# Altium footprint library DE-260924.PcbLib: 126 footprints (part 3 of 8)
Each footprint in its own frame and in the unit in brackets; x right, y up, seen from the top. Pads: shape width x height; smd on the part's side, far side on the other; paste and mask are expansions set on the pad; w line width, h text height; cw(c..) or ccw(c..) is an arc to the next point about the centre after c.
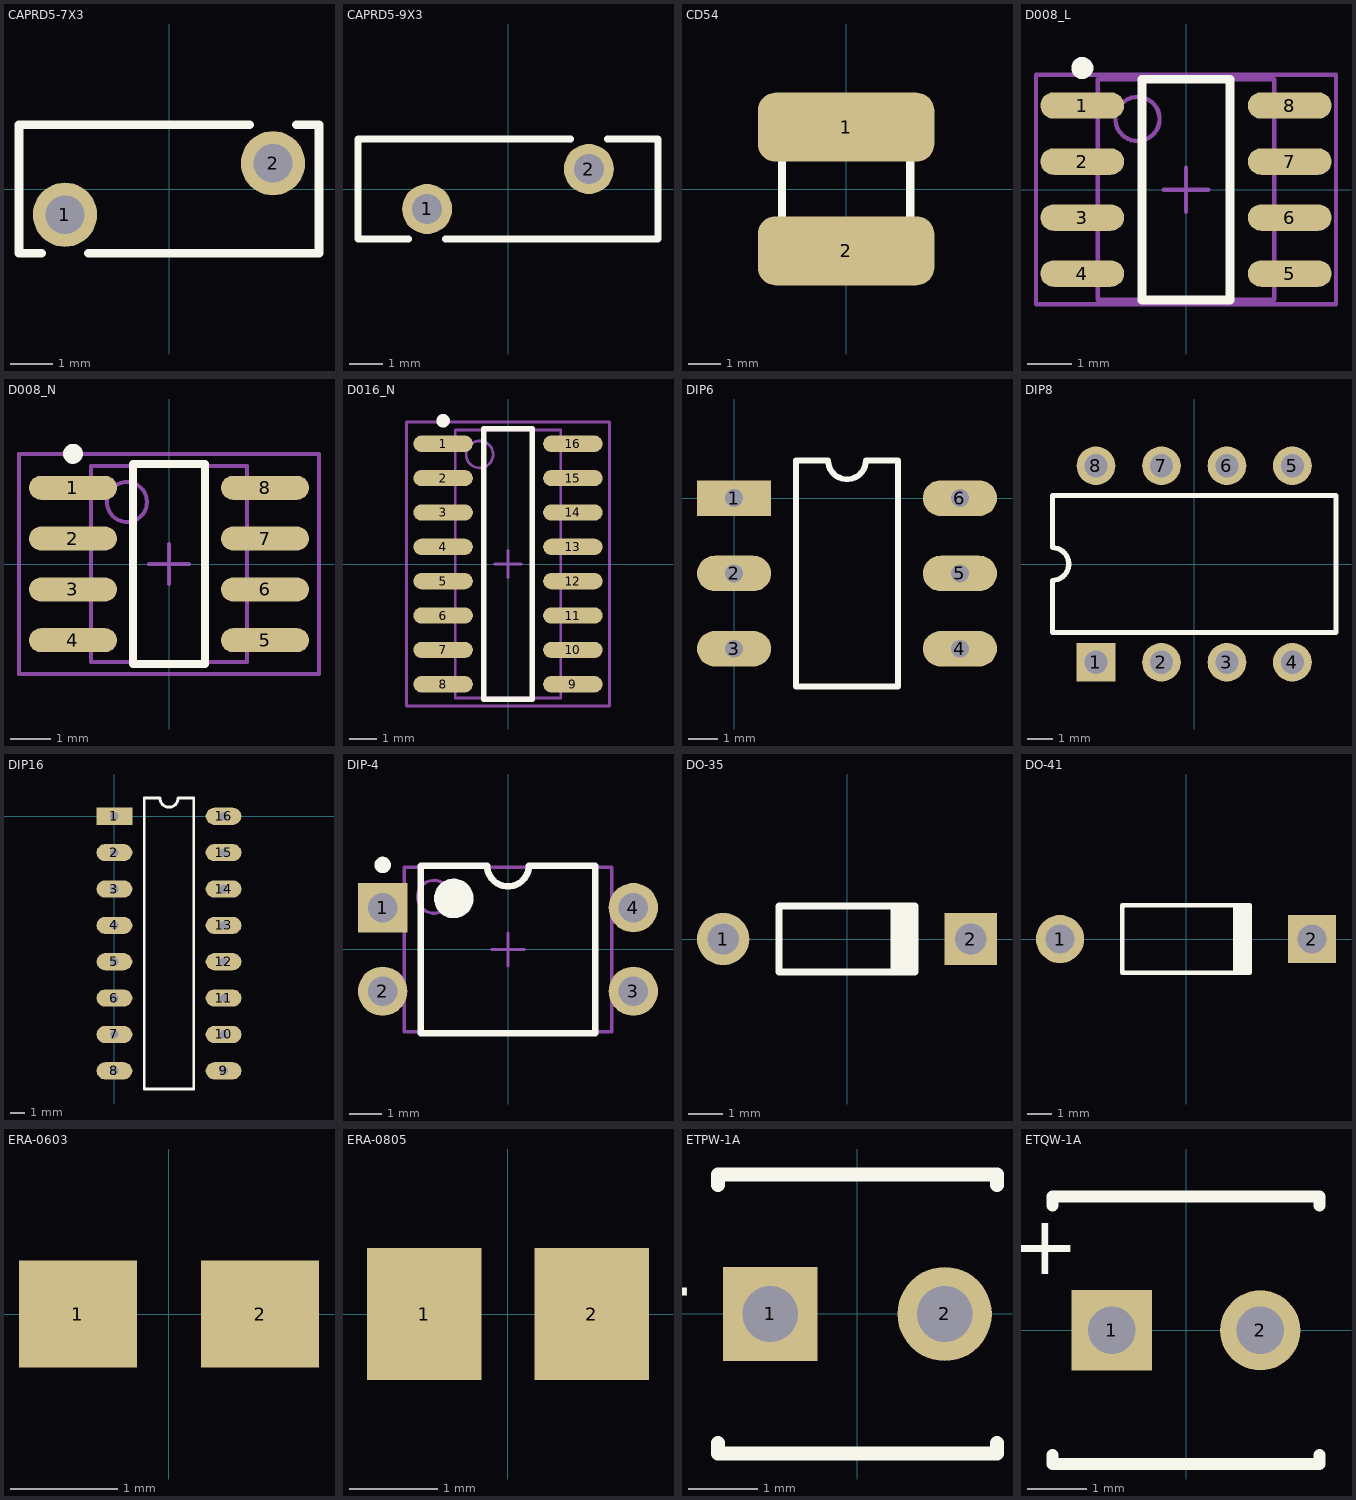
[diagram p2: the footprints below, top view; thin cyan lines are the x and y axes]

## CAPRD5-7X3 [mm] "Capacitor, Ceramic, Thru-Hole, Disc; Body 7 x 3 mm (LxW max) Pin Spacing 5 mm (typ)"
height 10
pads (2):
  round 1.5 hole 0.9: 1(-2.427,-0.6) 2(2.427,0.6)
Top Overlay:
  lines w0.2: -2.974,-1.5 -3.5,-1.5 -3.5,1.5 1.88,1.5 ; -1.88,-1.5 3.5,-1.5 3.5,1.5 2.974,1.5

## CAPRD5-9X3 [mm] "Capacitor, Ceramic, Thru-Hole, Disc; Body 9 x 3 mm (LxW max) Pin Spacing 5 mm (typ)"
height 12
pads (2):
  round 1.5 hole 0.9: 1(-2.427,-0.6) 2(2.427,0.6)
Top Overlay:
  lines w0.2: -2.974,-1.5 -4.5,-1.5 -4.5,1.5 1.88,1.5 ; -1.88,-1.5 4.5,-1.5 4.5,1.5 2.974,1.5

## CD54 [mm] "SMD Inductor 2,5A"
height 4.5
pads (2):
  rrect50% 5.5x2.15 smd: 1(0,1.925) 2(0,-1.925)
Top Overlay:
  lines w0.254: -2,-1.461 -2,1.547 ; -1.989,-1.461 ccw(c0.017,0.769) 1.981,-1.499 ; -1.981,1.547 cw(c0.043,-0.668) 1.99,1.614 ; 2,-1.499 2,1.614
3D body: height 4.5, standoff 0, extent -2.9,-2.899 2.9,2.899

## D008_L [mm] "SOIC, 8-Leads, Body 4.9x3.9mm, Pitch 1.27mm, IPC High Density"
height 1.75
pads (8):
  oval 1.9x0.6 smd: 1(-2.35,1.905) 2(-2.35,0.635) 3(-2.35,-0.635) 4(-2.35,-1.905) 5(2.35,-1.905) 6(2.35,-0.635) 7(2.35,0.635) 8(2.35,1.905)
Top Overlay:
  circle w0.25: c-2.35,2.755 r0.125
  lines w0.2: -1,-2.5 1,-2.5 1,2.5 -1,2.5 -1,-2.5
Mechanical 13:
  circle w0.1: c-1.1,1.6 r0.5
  lines w0.1: -2,-2.5 2,-2.5 2,2.5 -2,2.5 -2,-2.5
Mechanical 15:
  lines w0.1: -0.5,0 0.5,0 ; 0,-0.5 0,0.5 ; -3.4,-2.6 3.4,-2.6 3.4,2.6 -3.4,2.6 -3.4,-2.6
3D body: height 1.75, standoff 0, extent -2,-2.5 2,2.5

## D008_N [mm] "SOIC, 8-Leads, Body 4.9x3.9mm, Pitch 1.27mm, IPC Medium Density"
height 1.75
pads (8):
  oval 2.2x0.6 smd: 1(-2.4,1.905) 2(-2.4,0.635) 3(-2.4,-0.635) 4(-2.4,-1.905) 5(2.4,-1.905) 6(2.4,-0.635) 7(2.4,0.635) 8(2.4,1.905)
Top Overlay:
  circle w0.25: c-2.4,2.755 r0.125
  lines w0.2: -0.9,-2.5 0.9,-2.5 0.9,2.5 -0.9,2.5 -0.9,-2.5
Mechanical 13:
  circle w0.1: c-1.05,1.55 r0.5
  lines w0.1: -1.95,-2.45 1.95,-2.45 1.95,2.45 -1.95,2.45 -1.95,-2.45
Mechanical 15:
  lines w0.1: -0.5,0 0.5,0 ; 0,-0.5 0,0.5 ; -3.75,-2.75 3.75,-2.75 3.75,2.75 -3.75,2.75 -3.75,-2.75
3D body: height 1.75, standoff 0, extent -1.95,-2.45 1.95,2.45

## D016_N [mm] "SOIC, 16-Leads, Body 9.9x3.9mm, Pitch 1.27mm, IPC Medium Density"
height 1.75
pads (16):
  oval 2.2x0.6 smd: 1(-2.4,4.445) 2(-2.4,3.175) 3(-2.4,1.905) 4(-2.4,0.635) 5(-2.4,-0.635) 6(-2.4,-1.905) 7(-2.4,-3.175) 8(-2.4,-4.445) 9(2.4,-4.445) 10(2.4,-3.175) 11(2.4,-1.905) 12(2.4,-0.635) 13(2.4,0.635) 14(2.4,1.905) 15(2.4,3.175) 16(2.4,4.445)
Top Overlay:
  circle w0.25: c-2.4,5.295 r0.125
  lines w0.2: -0.9,-5 0.9,-5 0.9,5 -0.9,5 -0.9,-5
Mechanical 13:
  circle w0.1: c-1.05,4.05 r0.5
  lines w0.1: -1.95,-4.95 1.95,-4.95 1.95,4.95 -1.95,4.95 -1.95,-4.95
Mechanical 15:
  lines w0.1: -0.5,0 0.5,0 ; 0,-0.5 0,0.5 ; -3.75,-5.25 3.75,-5.25 3.75,5.25 -3.75,5.25 -3.75,-5.25
3D body: height 1.75, standoff 0, extent -1.95,-4.95 1.95,4.95

## DIP6 [mm]
height 0.8
pads (6):
  rect 2.5x1.2 hole 0.6: 1(0,0)
  oval 2.5x1.2 hole 0.6: 2(0,-2.54) 3(0,-5.08) 4(7.62,-5.08) 5(7.62,-2.54) 6(7.62,0)
Top Overlay:
  lines w0.2: 2.085,-6.35 5.535,-6.35 5.535,1.27 4.445,1.27 cw(c3.81,1.27) 3.175,1.27 2.085,1.27 2.085,-6.35
3D body: height 1, standoff 0.06, extent 0.635,-6.477 6.985,1.27

## DIP8 [mm] "DIP; 8 Leads; Row Spacing 7.62 mm; Pitch 2.54 mm"
height 5.08
pads (8):
  rect 1.5x1.5 hole 0.9: 1(-3.81,-3.81)
  round 1.5 hole 0.9: 2(-1.27,-3.81) 3(1.27,-3.81) 4(3.81,-3.81) 5(3.81,3.81) 6(1.27,3.81) 7(-1.27,3.81) 8(-3.81,3.81)
Top Overlay:
  lines w0.2: -5.5,-2.65 5.5,-2.65 5.5,2.65 -5.5,2.65 -5.5,0.635 cw(c-5.5,0) -5.5,-0.635 -5.5,-2.65
3D body: height 5, standoff 1, extent -5.461,-2.667 5.461,2.667

## DIP16 [mm]
pads (16):
  rect 2.5x1.2 hole 0.6: 1(0,0)
  oval 2.5x1.2 hole 0.6: 2(0,-2.54) 3(0,-5.08) 4(0,-7.62) 5(0,-10.16) 6(0,-12.7) 7(0,-15.24) 8(0,-17.78) 9(7.62,-17.78) 10(7.62,-15.24) 11(7.62,-12.7) 12(7.62,-10.16) 13(7.62,-7.62) 14(7.62,-5.08) 15(7.62,-2.54) 16(7.62,0)
Top Overlay:
  lines w0.2: 2.085,-19.05 5.535,-19.05 5.535,1.27 4.445,1.27 cw(c3.81,1.27) 3.175,1.27 2.085,1.27 2.085,-19.05
3D body: height 4.2, standoff 0.51, extent 1.27,-19.05 6.477,1.27

## DIP-4 [mm] "DIP; 4 Leads; Row Spacing 7.62 mm; Pitch 2.54 mm"
height 5.6
pads (4):
  rect 1.5x1.5 hole 0.9: 1(-3.81,1.27)
  round 1.5 hole 0.9: 2(-3.81,-1.27) 3(3.81,-1.27) 4(3.81,1.27)
Top Overlay:
  circle w0.6: c-1.65,1.55 r0.3
  circle w0.25: c-3.81,2.57 r0.125
  lines w0.2: -2.65,-2.55 2.65,-2.55 2.65,2.55 0.635,2.55 cw(c0,2.55) -0.635,2.55 -2.65,2.55 -2.65,-2.55
Mechanical 13:
  circle w0.1: c-2.25,1.6 r0.5
  lines w0.1: -3.15,-2.5 3.15,-2.5 3.15,2.5 -3.15,2.5 -3.15,-2.5
Mechanical 15:
  lines w0.1: -0.5,0 0.5,0 ; 0,-0.5 0,0.5
3D body: height 5.6, standoff 0, extent -3.15,-2.5 3.15,2.5

## DO-35 [mm] "Diode, Axial; Body 3.8 x 1.9 mm (LxDia. max), Lead Dia. 0.53 mm (max)"
height 1.9
pads (2):
  round 1.5 hole 0.9: 1(-3.55,0)
  rect 1.5x1.5 hole 0.9: 2(3.55,0)
Top Overlay:
  rectangle: 1.25,-0.95 2.05,0.95
  lines w0.2: 1.95,-0.95 -1.95,-0.95 -1.95,0.95 1.95,0.95

## DO-41 [mm] "Diode, Axial; Body 5.2 x 2.7 mm (LxDia. max), Lead Dia. 0.86 mm (max)"
height 2.8
pads (2):
  round 2 hole 1.2: 1(-5.23,0)
  rect 2x2 hole 1.2: 2(5.23,0)
Top Overlay:
  rectangle: 1.95,-1.398 2.75,1.402
  lines w0.2: 2.65,-1.4 -2.65,-1.4 -2.65,1.4 2.65,1.4

## ERA-0603 [mm] "Chip Resistor; Body 1.6 x 0.8 mm (LxW typ)"
height 0.55
pads (2):
  rect 1.1x1 smd: 1(-0.85,0) 2(0.85,0)

## ERA-0805 [mm] "Chip Resistor; Body 2 x 1.3 mm (LxW typ)"
height 0.6
pads (2):
  rect 1.3x1.5 smd: 1(-0.95,0) 2(0.95,0)

## ETPW-1A [mm] "Capacitor, Tantalum Bead; Body 4 x 7.1 mm (Dia.xH max); Pin Spacing 2.5 mm (typ)"
height 7.1
pads (2):
  rect 1.35x1.35 hole 0.8: 1(-1.25,0)
  round 1.35 hole 0.8: 2(1.25,0)
Top Overlay:
  lines w0.2: -2,-1.85 -2,-2 2,-2 2,-1.85 ; -2,1.85 -2,2 2,2 2,1.85
  text "+" at -2.3,0.75 h1

## ETQW-1A [mm] "Capacitor, Tantalum Bead; Body 4.5 x 7.5 mm (Dia.xH max); Pin Spacing 2.5 mm (typ)"
height 7.5
pads (2):
  rect 1.35x1.35 hole 0.8: 1(-1.25,0)
  round 1.35 hole 0.8: 2(1.25,0)
Top Overlay:
  lines w0.2: -2.25,-2.1 -2.25,-2.25 2.25,-2.25 2.25,-2.1 ; -2.25,2.1 -2.25,2.25 2.25,2.25 2.25,2.1
  text "+" at -1.8,1.8 h1